# Altium footprint library LFCN6000.PcbLib: 1 footprints
Each footprint in its own frame and in the unit in brackets; x right, y up, seen from the top. Pads: shape width x height; smd on the part's side, far side on the other; paste and mask are expansions set on the pad; w line width, h text height; cw(c..) or ccw(c..) is an arc to the next point about the centre after c.
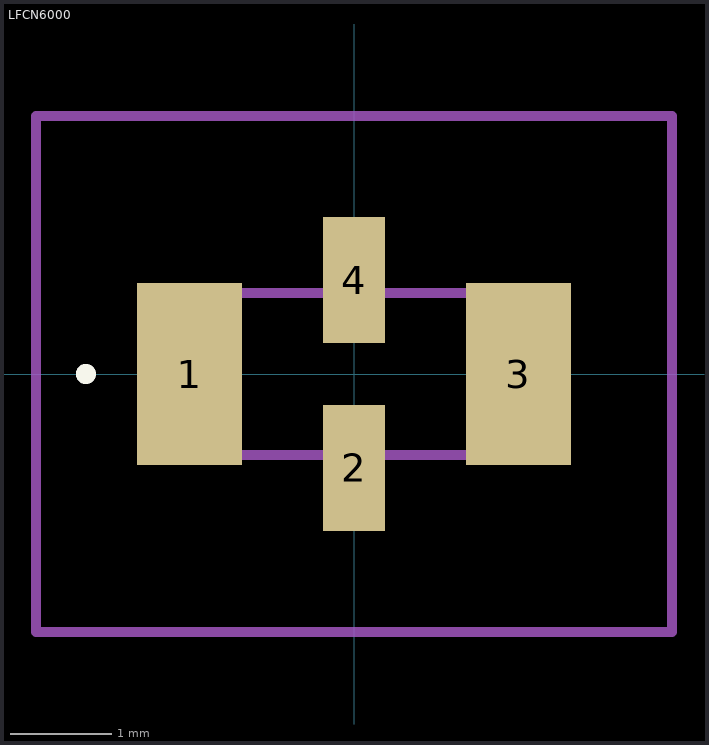
[diagram p0: the footprint, top view; thin cyan lines are the x and y axes]

## LFCN6000 [mm]
pads (4):
  rect 1.04x1.8 smd: 1(-1.625,0) 3(1.625,0)
  rect 0.61x1.245 smd: 2(0,-0.928) 4(0,0.928)
Top Overlay:
  lines w0.1: -2.7,0 -2.7,0 ; -2.7,0 ccw(c-2.65,0) -2.6,0 ; -2.7,0 cw(c-2.65,0) -2.6,0 ; -2.6,0 -2.6,0
Mechanical 15:
  lines w0.1: -1.6,-0.8 1.6,-0.8 1.6,0.8 -1.6,0.8 -1.6,-0.8
Mechanical 20:
  lines w0.1: -3.145,-2.55 3.145,-2.55 3.145,2.55 -3.145,2.55 -3.145,-2.55